# Altium footprint library 常用元件封裝庫(pcb).PCBLIB: 67 footprints (part 2 of 5)
Each footprint in its own frame and in the unit in brackets; x right, y up, seen from the top. Pads: shape width x height; smd on the part's side, far side on the other; paste and mask are expansions set on the pad; w line width, h text height; cw(c..) or ccw(c..) is an arc to the next point about the centre after c.
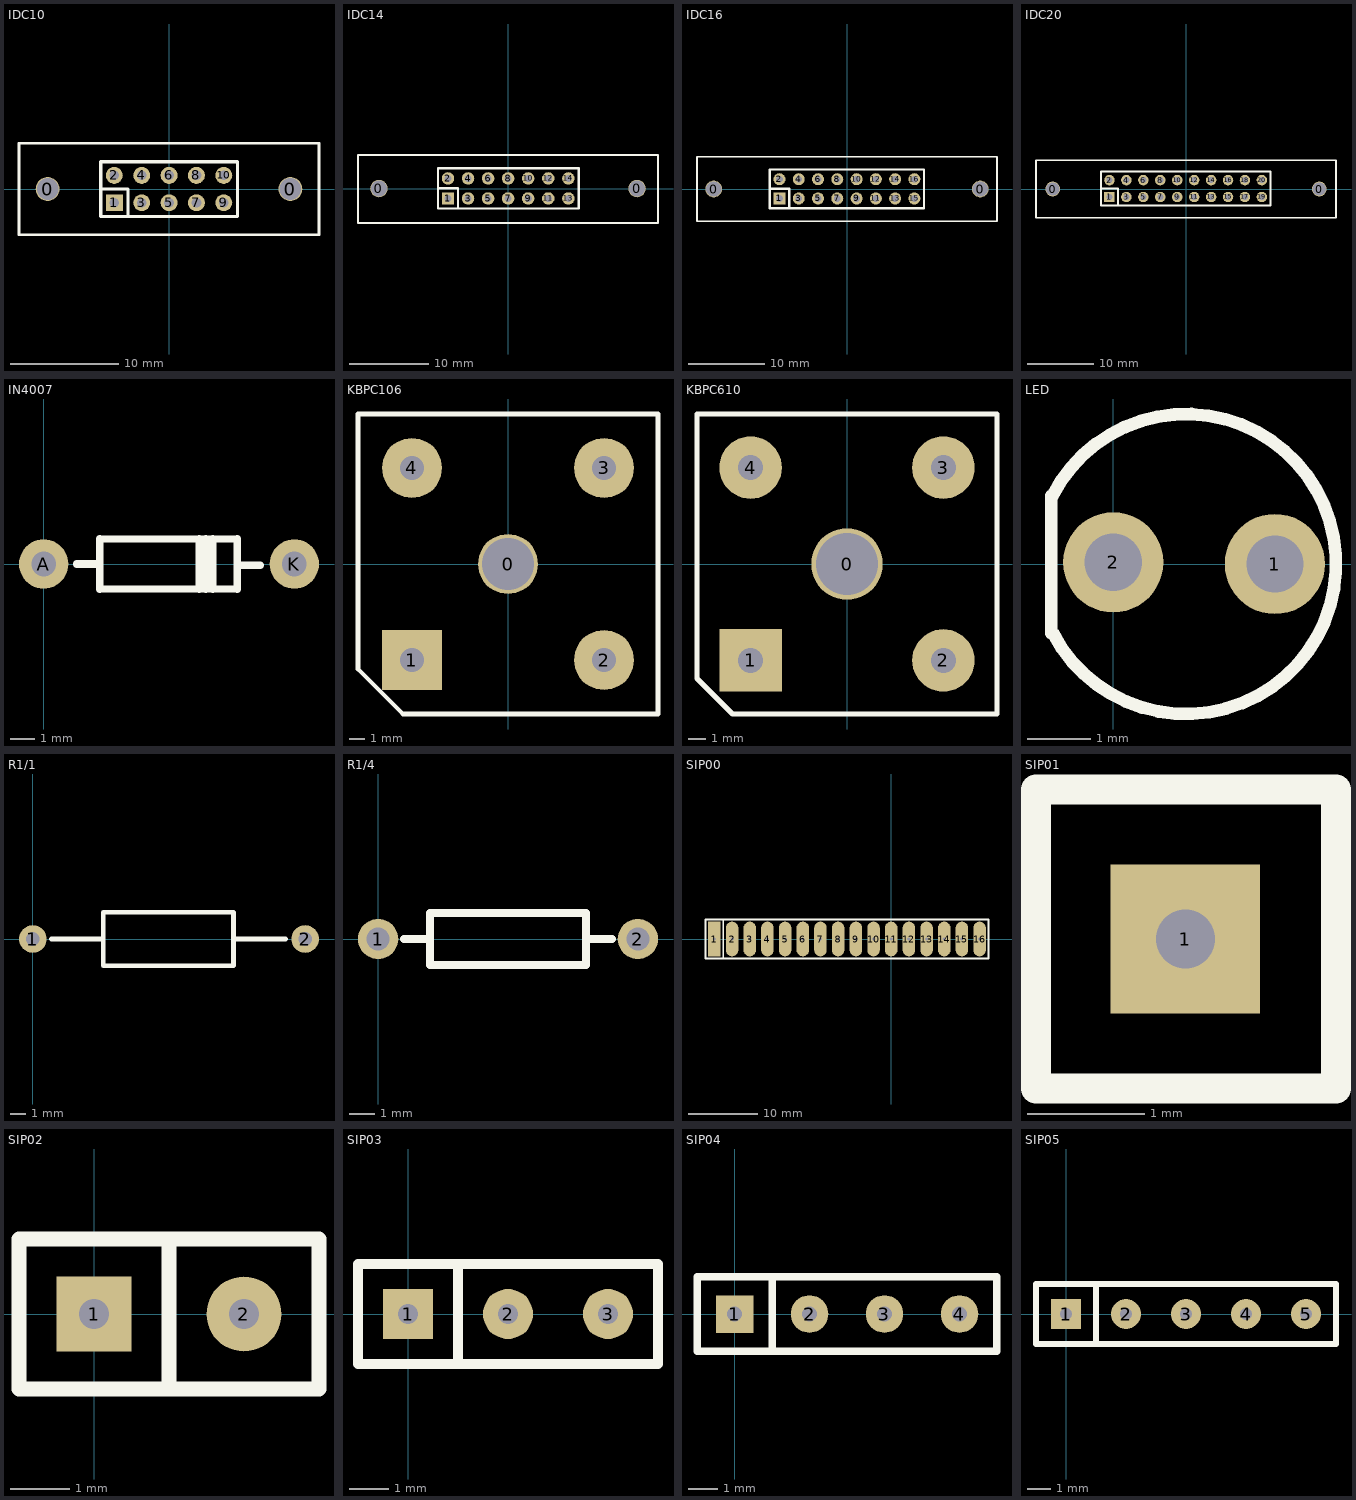
[diagram p1: the footprints below, top view; thin cyan lines are the x and y axes]

## IDC10 [mm]
pads (12):
  round 2.2 hole 2: 0(-11.27,0) 0(11.27,0)
  rect 1.575x1.575 hole 0.9: 1(-5.075,-1.275)
  round 1.575 hole 0.9: 2(-5.075,1.265) 3(-2.535,-1.275) 4(-2.535,1.265) 5(0.005,-1.275) 6(0.005,1.265) 7(2.545,-1.275) 8(2.545,1.265) 9(5.085,-1.275) 10(5.085,1.265)
Top Overlay:
  lines w0.254: -13.92,-4.25 -13.92,4.25 13.92,4.25 13.92,-4.25 -13.92,-4.25
  lines w0.305: -6.345,-0.005 -3.805,-0.005 -3.805,-2.545 ; -6.345,-2.545 6.355,-2.545 6.355,2.535 -6.345,2.535 -6.345,-2.545

## IDC14 [mm]
pads (16):
  round 2.2 hole 2: 0(-16.35,0) 0(16.35,0)
  rect 1.575x1.575 hole 0.9: 1(-7.601,-1.25)
  round 1.575 hole 0.9: 2(-7.601,1.29) 3(-5.061,-1.25) 4(-5.061,1.29) 5(-2.521,-1.25) 6(-2.521,1.29) 7(0.019,-1.25) 8(0.019,1.29) 9(2.559,-1.25) 10(2.559,1.29) 11(5.099,-1.25) 12(5.099,1.29) 13(7.639,-1.25) 14(7.639,1.29)
Top Overlay:
  lines w0.254: -19,-4.35 19,-4.35 19,4.25 -19,4.25 -19,-4.35
  lines w0.305: -8.871,0.02 -6.331,0.02 -6.331,-2.52 ; 8.979,-2.52 8.979,2.56 ; 8.983,-2.515 -8.871,-2.52 -8.871,2.56 8.983,2.57

## IDC16 [mm]
pads (18):
  round 2.2 hole 2: 0(-17.57,0) 0(17.57,0)
  rect 1.575x1.575 hole 0.9: 1(-8.9,-1.25)
  round 1.575 hole 0.9: 2(-8.9,1.29) 3(-6.36,-1.25) 4(-6.36,1.29) 5(-3.82,-1.25) 6(-3.82,1.29) 7(-1.28,-1.25) 8(-1.28,1.29) 9(1.26,-1.25) 10(1.26,1.29) 11(3.8,-1.25) 12(3.8,1.29) 13(6.34,-1.25) 14(6.34,1.29) 15(8.88,-1.25) 16(8.88,1.29)
Top Overlay:
  lines w0.254: 19.765,-4.25 19.765,4.25 ; 19.77,-4.25 -19.77,-4.25 -19.77,4.25 19.77,4.25
  lines w0.305: -10.17,0.02 -7.63,0.02 -7.63,-2.52 ; -10.17,-2.52 10.15,-2.52 10.15,2.56 -10.17,2.56 -10.17,-2.52

## IDC20 [mm]
pads (22):
  round 2.2 hole 2: 0(-20,0) 0(20,0)
  rect 1.575x1.575 hole 0.9: 1(-11.476,-1.2)
  round 1.575 hole 0.9: 2(-11.476,1.34) 3(-8.936,-1.2) 4(-8.936,1.34) 5(-6.396,-1.2) 6(-6.396,1.34) 7(-3.856,-1.2) 8(-3.856,1.34) 9(-1.316,-1.2) 10(-1.316,1.34) 11(1.224,-1.2) 12(1.224,1.34) 13(3.764,-1.2) 14(3.764,1.34) 15(6.304,-1.2) 16(6.304,1.34) 17(8.844,-1.2) 18(8.844,1.34) 19(11.384,-1.2) 20(11.384,1.34)
Top Overlay:
  lines w0.254: -22.5,-4.3 -22.5,4.3 22.5,4.3 22.5,-4.3 -22.5,-4.3
  lines w0.305: -12.746,0.07 -10.206,0.07 -10.206,-2.47 ; -12.746,-2.47 12.654,-2.47 12.654,2.61 -12.746,2.61 -12.746,-2.47

## IN4007 [mm]
pads (2):
  round 2 hole 1: A(0,0) K(10.16,0)
Top Overlay:
  lines w0.305: 1.35,0 2.282,0 ; 2.282,-1.016 2.282,1.016 ; 2.289,-1.007 7.841,-1.014 ; 2.289,1.007 7.841,1.014 ; 6.3,-1.016 6.3,1.016 ; 6.575,-1.016 6.575,1.016 ; 6.85,-1.016 6.85,1.016 ; 7.853,-1.016 7.853,1.016 ; 7.853,-0.05 8.785,-0.05

## KBPC106 [mm]
pads (5):
  round 4 hole 3.5: 0(0,0)
  rect 4x4 hole 1.6: 1(-6.4,-6.4)
  round 4 hole 1.6: 2(6.4,-6.4) 3(6.4,6.4) 4(-6.4,6.4)
Top Overlay:
  lines w0.305: -10,-7 -10,10 10,10 10,-10 -7,-10 -10,-7

## KBPC610 [mm]
pads (5):
  round 4 hole 3.5: 0(0,0)
  rect 3.5x3.5 hole 1.4: 1(-5.4,-5.4)
  round 3.5 hole 1.4: 2(5.4,-5.4) 3(5.4,5.4) 4(-5.4,5.4)
Top Overlay:
  lines w0.305: -8.4,-6.4 -8.4,8.4 8.4,8.4 8.4,-8.4 -6.4,-8.4 -8.4,-6.4

## LED [mil]
pads (2):
  round 62 hole 35.43: 1(100,0) 2(0,1)
Top Overlay:
  lines w7.87: -38.34,-42.75 -38.34,42.08 ; -37.62,42.22 cw(c45,0) -37.34,-42.75

## R1/1 [mm]
pads (2):
  round 1.8 hole 0.9: 1(0,0) 2(17.78,0)
Top Overlay:
  lines w0.305: 1.2,0 4.6,0 ; 4.6,-1.75 4.6,1.75 13.1,1.75 13.1,-1.75 4.7,-1.75 ; 13.1,0 16.5,0

## R1/4 [mil]
pads (2):
  round 62 hole 35.43: 1(0,0) 2(400,0)
Top Overlay:
  lines w12: 40,0 80,0 ; 320,0 360,0 ; 80,-40 80,40 320,40 320,-40 80,-40

## SIP00 [mm]
pads (16):
  rect 1.8x5 hole 0.5: 1(-25.4,0)
  oval 1.8x5 hole 0.5: 2(-22.86,0) 3(-20.32,0) 4(-17.78,0) 5(-15.24,0) 6(-12.7,0) 7(-10.16,0) 8(-7.62,0) 9(-5.08,0) 10(-2.54,0) 11(0,0) 12(2.54,0) 13(5.08,0) 14(7.62,0) 15(10.16,0) 16(12.7,0)
Top Overlay:
  lines w0.254: -24.13,-2.794 -24.13,2.794 ; -26.67,-2.794 13.97,-2.794 13.97,2.794 -26.67,2.794 -26.67,-2.794

## SIP01 [mm]
pads (1):
  rect 1.27x1.27 hole 0.5: 1(50.8,101.6)
Top Overlay:
  lines w0.254: 52.06,100.33 49.53,100.33 49.53,102.87 52.07,102.87 ; 52.08,100.33 52.08,102.87

## SIP02 [mm]
pads (2):
  rect 1.27x1.27 hole 0.5: 1(0,0)
  round 1.27 hole 0.5: 2(2.54,0)
Top Overlay:
  lines w0.254: 1.27,-1.27 1.27,1.27 ; -1.27,-1.27 3.81,-1.27 3.81,1.27 -1.27,1.27 -1.27,-1.27

## SIP03 [mm]
pads (3):
  rect 1.27x1.27 hole 0.5: 1(0,0)
  round 1.27 hole 0.5: 2(2.54,0) 3(5.08,0)
Top Overlay:
  lines w0.254: 1.27,-1.27 1.27,1.27 ; -1.27,-1.27 6.35,-1.27 6.35,1.27 -1.27,1.27 -1.27,-1.27

## SIP04 [mm]
pads (4):
  rect 1.27x1.27 hole 0.5: 1(0,0)
  round 1.27 hole 0.5: 2(2.54,0) 3(5.08,0) 4(7.62,0)
Top Overlay:
  lines w0.254: 1.27,-1.27 1.27,1.27 ; -1.27,-1.27 -1.27,1.27 8.89,1.27 8.89,-1.27 -1.27,-1.27

## SIP05 [mm]
pads (5):
  rect 1.27x1.27 hole 0.5: 1(0,0)
  round 1.27 hole 0.5: 2(2.54,0) 3(5.08,0) 4(7.62,0) 5(10.16,0)
Top Overlay:
  lines w0.254: 1.27,-1.27 1.27,1.27 ; -1.27,-1.27 -1.27,1.27 11.43,1.27 11.43,-1.27 -1.27,-1.27